# EAGLE library part 74AC11379 (library 74ac-logic)
Quadruple D-type FLIP FLOP, clock enable
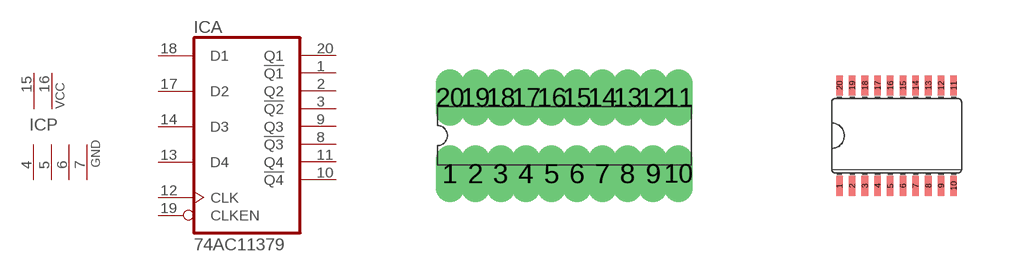
[diagram p45: symbol with the pads of DIL20; footprints DIL20, SO20W]

Designator prefix IC; gates A=7411379 P=2PWR4GND

## 74AC11379  [DIL20]
1  A:!Q1  out
2  A:Q2  out
3  A:!Q2  out
4  P:GND  pwr
5  P:GND  pwr
6  P:GND  pwr
7  P:GND  pwr
8  A:!Q3  out
9  A:Q3  out
10  A:!Q4  out
11  A:Q4  out
12  A:CLK  in
13  A:D4  in
14  A:D3  in
15  P:VCC  pwr
16  P:VCC  pwr
17  A:D2  in
18  A:D1  in
19  A:CLKEN  in
20  A:Q1  out

## 74AC11379D  [SO20W]
Pads as for DIL20

## Footprint DIL20 (pad centres in mm)
Dual In Line Package
drill 0.203 long: 1 -2.857,-0.953; 2 -2.223,-0.953; 3 -1.587,-0.953; 4 -0.953,-0.953; 5 -0.318,-0.953; 6 0.318,-0.953; 7 0.953,-0.953; 8 1.587,-0.953; 9 2.223,-0.953; 10 2.857,-0.953; 11 2.857,0.953; 12 2.223,0.953; 13 1.587,0.953; 14 0.953,0.953; 15 0.318,0.953; 16 -0.318,0.953; 17 -0.953,0.953; 18 -1.587,0.953; 19 -2.223,0.953; 20 -2.857,0.953

## Footprint SO20W (pad centres in mm)
Wide Small Outline package 300 mil
smd 0.165 x 0.508: 1 -1.429,-1.257; 2 -1.111,-1.257; 3 -0.794,-1.257; 4 -0.476,-1.257; 5 -0.159,-1.257; 6 0.159,-1.257; 7 0.476,-1.257; 8 0.794,-1.257; 9 1.111,-1.257; 10 1.429,-1.257; 11 1.429,1.257; 12 1.111,1.257; 13 0.794,1.257; 14 0.476,1.257; 15 0.159,1.257; 16 -0.159,1.257; 17 -0.476,1.257; 18 -0.794,1.257; 19 -1.111,1.257; 20 -1.429,1.257